# Altium schematic symbol library SCH - CONNECTORS - SAMTEC - TSW-110-07-F-T.SCHLIB: 1 symbol
Pins are listed as number, name and electrical type; pins without a type are passive.

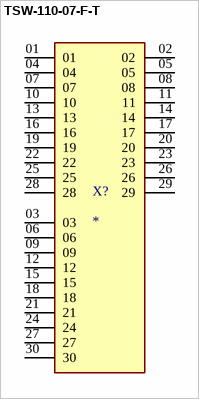
[diagram p0: symbol TSW-110-07-F-T]

## TSW-110-07-F-T
designator X?
THROUGH-HOLE .025" SQ POST HEADER; MP: TSW-110-07-F-T; MF: Samtec Inc.; Value: *; Package: None; Price: None; Availability: Unavailable
footprint SAMTEC_TSW-110-07-F-T
pins: 01, 02, 03, 04, 05, 06, 07, 08, 09, 10, 11, 12, 13, 14, 15, 16, 17, 18, 19, 20, 21, 22, 23, 24, 25, 26, 27, 28, 29, 30